# Altium schematic symbol library Markpoint.SchLib: 1 symbol
Pins are listed as number, name and electrical type; pins without a type are passive.

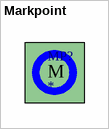
[diagram p0: symbol Markpoint]

## Markpoint
designator MP?  (no BOM)
text: M